# Altium schematic symbol library Varistor.SchLib: 3 symbols
Pins are listed as number, name and electrical type; pins without a type are passive.

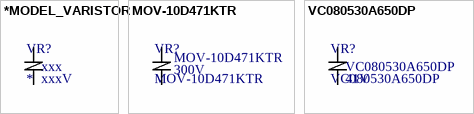
[diagram p0: symbols *MODEL_VARISTOR to VC080530A650DP]

## *MODEL_VARISTOR
designator VR?  value xxx  Voltage: xxxV
Manufacturer: *; Mount Type: *
pins: 1, 2

## MOV-10D471KTR
designator VR?  Voltage: 300V
VARISTOR 423V 2.5KA DISC 10MM; Manufacturer: Bourns Inc.; Mount Type: PTH; Supplier 1: Mouser; Supplier 2: Digi-Key; Supplier Part Number 1: 652-MOV-10D471KTR; Supplier Part Number 2: MOV-10D471K-ND; Value: MOV-10D471KTR
footprint VAR_DISK_0.2 (Varistor PTH)
pins: 1, 2

## VC080530A650DP
designator VR?  Voltage: 41V
VARISTOR 41V 30A 0805; Manufacturer: AVX Corporation; Mount Type: SMD; Supplier 1: Digi-Key; Supplier Part Number 1: 478-3654-1-ND; Supplier 2: Newark; Supplier Part Number 2: 26M4810; Supplier 3: Farnell; Supplier Part Number 3: 1301932; Supplier 4: Avnet; Supplier Part Number 4: VC080530A650DP/BKN; Value: VC080530A650DP
pins: 1, 2